# Altium schematic symbol library Schlib1.SchLib: 8 symbols
Pins are listed as number, name and electrical type; pins without a type are passive.

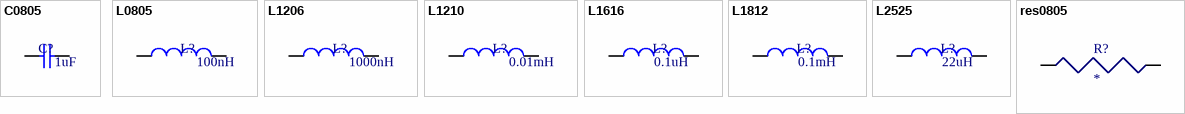
[diagram p0: symbols C0805 to res0805]

## C0805
designator C?  value 1uF  (hidden comment: C0805)
0805 Ceramic Chip Capacitor - Standard; Footprint: 0805; Temperature Coefficient: *
simulation model CAP (Capacitor)
signal-integrity model C0805
footprint 0805CAP (Chip Capacitor; Body 2.0 x 1.2 mm (LxW typ))
pins: 1, 2

## L0805
designator L?  value 100nH  (hidden comment: L0805)
0805 Chip Inductor - Standard; Series: *
simulation model IND (Inductor)
signal-integrity model L0805
footprint 0805RES (Chip Resistor Body 2.0 x 1.2 mm (LxW typ))
pins: 1, 2

## L1206
designator L?  value 1000nH  (hidden comment: L1206)
1206 Chip Inductor - Standard
simulation model IND (Inductor)
signal-integrity model L1206
footprint 1206RES (Chip Resistor; Body 3.2 x 1.6 mm (LxW typ))
pins: 1, 2

## L1210
designator L?  value 0.01mH  (hidden comment: L1210)
1210 Chip Inductor - Standard
simulation model IND (Inductor)
signal-integrity model L1210
footprint 1210RES (Chip Capacitor; Body 3.2 x 2.5 mm (LxW typ))
pins: 1, 2

## L1616
designator L?  value 0.1uH  (hidden comment: L1616)
1616 VISHAY IHLP Automotive Inductors; Series: *; SRF: *; Irms: *; DCR max (Ohms): *; Qmin: *; Footprint: 1616
footprint 1616IND (VISHAY IHLP Automotive Inductors)
pins: 1, 2

## L1812
designator L?  value 0.1mH  (hidden comment: L1812)
1812 Chip Inductor - Standard; Series: *; SRF: *; Irms: *; DCR max (Ohms): *; Qmin: *; Footprint: 1812
simulation model IND (Inductor)
signal-integrity model L1812
footprint 1812 (Chip Capacitor; Body 4.5 x 3.2 mm (LxW typ))
pins: 1, 2

## L2525
designator L?  value 22uH  (hidden comment: L2525)
2525 VISHAY IHLP Automotive Inductors; Series: *; SRF: *; Irms: *; DCR max (Ohms): *; Qmin: *; Footprint: 2525
footprint 2525IND (VISHAY IHLP Automotive Inductors)
pins: 1, 2

## res0805
designator R?
Standard Resistor; Value: *; Footprint: 0805; Power Rating: *; Manufacturer No: *; Manufacturer: *
footprint res0805 (Standard SMD resistor, Vishay recomaênded land pattern for Reflow.)
pins: 1, 2